# Altium footprint library Inductors.PcbLib: 3 footprints
Each footprint in its own frame and in the unit in brackets; x right, y up, seen from the top. Pads: shape width x height; smd on the part's side, far side on the other; paste and mask are expansions set on the pad; w line width, h text height; cw(c..) or ccw(c..) is an arc to the next point about the centre after c.
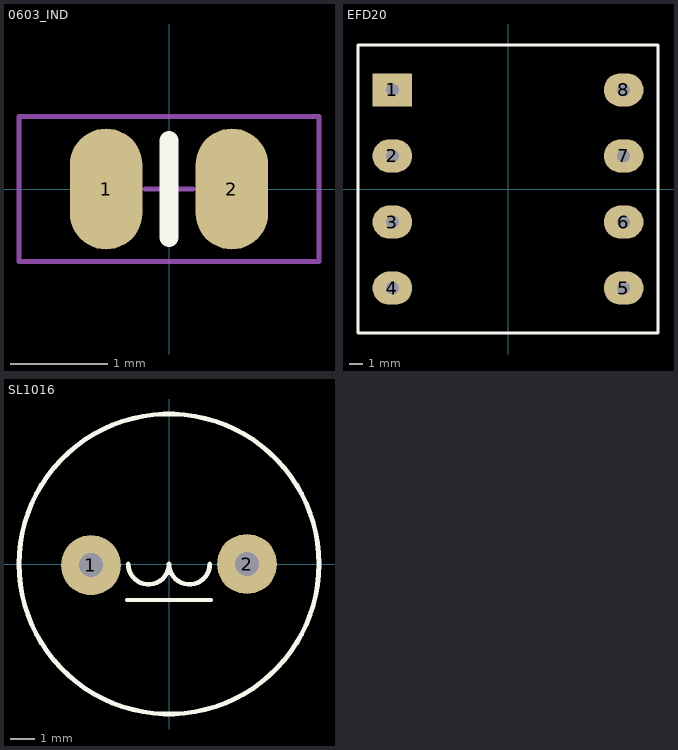
[diagram p0: the footprints below, top view; thin cyan lines are the x and y axes]

## 0603_IND [mm]
pads (2):
  oval 0.75x1.25 smd paste+0 mask+0.1: 1(-0.65,0) 2(0.65,0)
Top Overlay:
  lines w0.2: 0,-0.5 0,0.5
Mechanical 15:
  lines w0.05: -0.25,0 0.25,0 ; 0,-0.25 0,0.25 ; -1.55,-0.75 1.55,-0.75 1.55,0.75 -1.55,0.75 -1.55,-0.75
3D body: height 1.04, standoff 0.02, extent -0.9,-0.56 0.9,0.56

## EFD20 [mm]
pads (8):
  rect 3x2.5 hole 1: 1(-8.75,7.5)
  oval 3x2.5 hole 1: 2(-8.75,2.5) 3(-8.75,-2.5) 4(-8.75,-7.5) 5(8.75,-7.5) 6(8.75,-2.5) 7(8.75,2.5) 8(8.75,7.5)
Top Overlay:
  lines w0.2: -11.35,-10.9 -11.35,10.9 11.35,10.9 11.35,-10.9 -11.35,-10.9
3D body: height 10.41, standoff -3.49, extent -11.331,-10.9 11.332,10.9

## SL1016 [mm]
pads (2):
  round 2.5 hole 1 unplated: 1(-3.25,-0.05) 2(3.25,0)
Top Overlay:
  circle w0.2: c0,0 r6.25
  lines w0.15: -1.75,-1.5 1.75,-1.5
  lines w0.2: -1.7,0 ccw(c-0.85,0) 0,0 ccw(c0.85,0) 1.7,0
3D body: height 20, standoff -3, extent -6.5,-6.5 6.5,6.5